# EAGLE library part ACM_CASTELLATED (library ACM_Pindown)
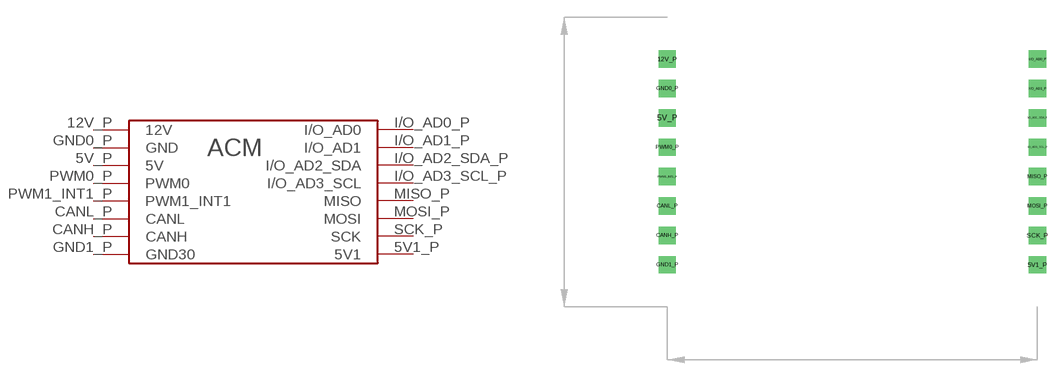
[diagram p0: symbol with the pads of ACM_CAS_FP; footprint ACM_CAS_FP]

Designator prefix -

## ACM_CASTELLATED  [ACM_CAS_FP]
5V1_P  5V1
5V_P  5V
12V_P  12V
CANH_P  CANH
CANL_P  CANL
GND0_P  GND
GND1_P  GND30
I/O_AD0_P  I/O_AD0
I/O_AD1_P  I/O_AD1
I/O_AD2_SDA_P  I/O_AD2_SDA
I/O_AD3_SCL_P  I/O_AD3_SCL
MISO_P  MISO
MOSI_P  MOSI
PWM0_P  PWM0
PWM1_INT1_P  PWM1_INT1
SCK_P  SCK

## Footprint ACM_CAS_FP (pad centres in mm)
drill 1 square: 5V1_P 32,3.61; 5V_P 0,16.31; 12V_P 0,21.39; CANH_P 0,6.15; CANL_P 0,8.69; GND0_P 0,18.85; GND1_P 0,3.61; I/O_AD0_P 32,21.39; I/O_AD1_P 32,18.85; I/O_AD2_SDA_P 32,16.31; I/O_AD3_SCL_P 32,13.77; MISO_P 32,11.23; MOSI_P 32,8.69; PWM0_P 0,13.77; PWM1_INT1_P 0,11.23; SCK_P 32,6.15